# Altium footprint library HeaderStack3.PcbLib: 1 footprints
Each footprint in its own frame and in the unit in brackets; x right, y up, seen from the top. Pads: shape width x height; smd on the part's side, far side on the other; paste and mask are expansions set on the pad; w line width, h text height; cw(c..) or ccw(c..) is an arc to the next point about the centre after c.
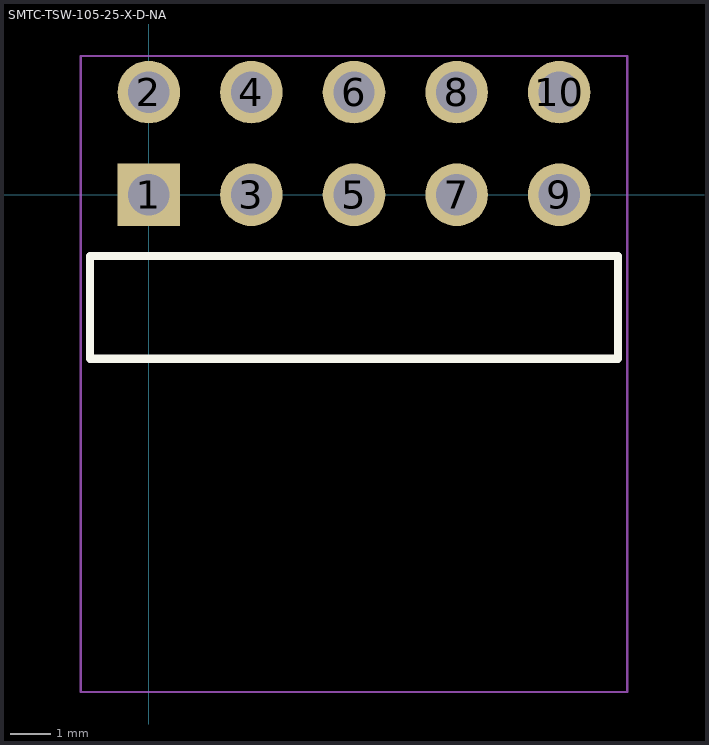
[diagram p0: the footprint, top view; thin cyan lines are the x and y axes]

## SMTC-TSW-105-25-X-D-NA [mm] ".025 SQ Post Terminal Strip Assembly, 2x5 Pins, Right Angle, 2.54mm Pitch, Male"
height 5.08
pads (10):
  rect 1.55x1.55 hole 1.02: 1(0,0)
  round 1.55 hole 1.02: 2(0,2.54) 3(2.54,0) 4(2.54,2.54) 5(5.08,0) 6(5.08,2.54) 7(7.62,0) 8(7.62,2.54) 9(10.16,0) 10(10.16,2.54)
Top Overlay:
  lines w0.2: -1.46,-4.06 11.62,-4.06 11.62,-1.52 -1.46,-1.52 -1.46,-4.06
Mechanical 13:
  lines w0.1: -1.46,-4.06 11.62,-4.06 11.62,-1.52 -1.46,-1.52 -1.46,-4.06
Mechanical 15:
  lines w0.05: -1.685,-12.315 11.845,-12.315 11.845,3.44 -1.685,3.44 -1.685,-12.315
3D body "TSW-105-25-X-D-NA.step": height 5.08, standoff -3.02, extent -1.27,-12.19 11.43,2.859